# Altium footprint library components.PcbLib: 32 footprints (part 1 of 2)
Each footprint in its own frame and in the unit in brackets; x right, y up, seen from the top. Pads: shape width x height; smd on the part's side, far side on the other; paste and mask are expansions set on the pad; w line width, h text height; cw(c..) or ccw(c..) is an arc to the next point about the centre after c.
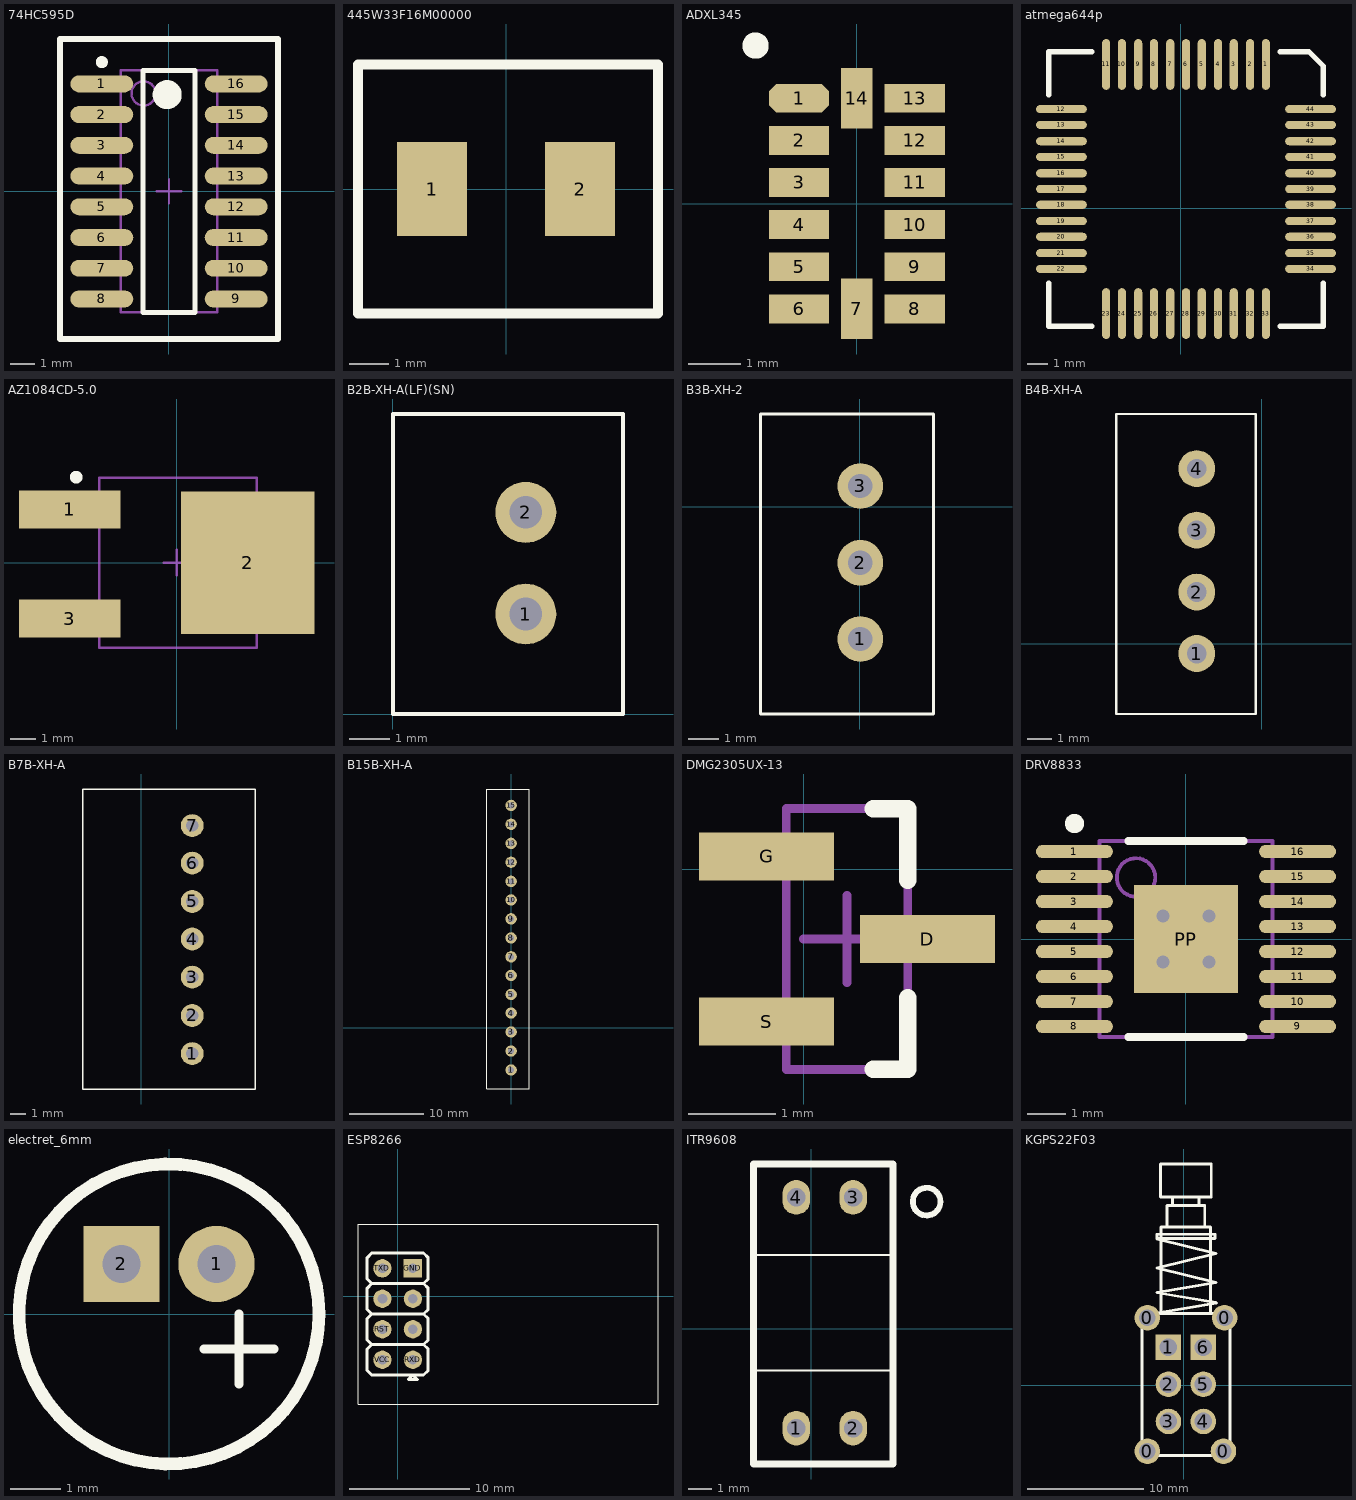
[diagram p0: the footprints below, top view; thin cyan lines are the x and y axes]

## 74HC595D [mm] "SOIC, 16-Leads, Body 10.0x4.0mm (max), Pitch 1.27mm, IPC Low Density"
height 1.7
pads (16):
  oval 2.6x0.7 smd: 1(-2.775,4.445) 2(-2.775,3.175) 3(-2.775,1.905) 4(-2.775,0.635) 5(-2.775,-0.635) 6(-2.775,-1.905) 7(-2.775,-3.175) 8(-2.775,-4.445) 9(2.775,-4.445) 10(2.775,-3.175) 11(2.775,-1.905) 12(2.775,-0.635) 13(2.775,0.635) 14(2.775,1.905) 15(2.775,3.175) 16(2.775,4.445)
Top Overlay:
  circle w0.6: c-0.075,4 r0.3
  circle w0.25: c-2.775,5.345 r0.125
  lines w0.2: -1.075,-5 1.075,-5 1.075,5 -1.075,5 -1.075,-5
  lines w0.254: -4.5,-6.1 4.5,-6.1 4.5,6.3 -4.5,6.3 -4.5,-6.1
Mechanical 13:
  circle w0.1: c-1.05,4.05 r0.5
  lines w0.1: -2,-5 2,-5 2,5 -2,5 -2,-5
Mechanical 15:
  lines w0.1: -0.5,0 0.5,0 ; 0,-0.5 0,0.5
3D body: height 1.7, standoff 0.1, extent -2,-5 2,5

## 445W33F16M00000 [mm]
pads (2):
  rect 1.8x2.4 smd: 1(-1.9,0) 2(1.9,0)
Top Overlay:
  lines w0.254: -3.8,-3.2 -3.8,3.2 3.9,3.2 3.9,-3.2 -3.8,-3.2

## ADXL345 [mm] "BGA, 14-Leads, Body 5.0x3.0mm,  Pitch 0.80mm"
height 1
pads (14):
  oct 1.145x0.55 smd: 1(-1.1,2)
  rect 1.145x0.55 smd: 2(-1.1,1.2) 3(-1.1,0.4) 4(-1.1,-0.4) 5(-1.1,-1.2) 6(-1.1,-2) 8(1.1,-2) 9(1.1,-1.2) 10(1.1,-0.4) 11(1.1,0.4) 12(1.1,1.2) 13(1.1,2)
  rect 0.6x1.145 smd: 7(0,-2) 14(0,2)
Top Overlay:
  circle w0.25: c-1.925,3 r0.125
3D body: height 1, standoff 0.21, extent -1.5,-2.5 1.5,2.5

## atmega644p [mil]
pads (44):
  oval 16x100 smd: 1(167.45,282.95) 2(136.45,282.95) 3(104.45,282.95) 4(73.45,282.95) 5(41.45,282.95) 6(10.45,282.95) 7(-20.55,282.95) 8(-52.55,282.95) 9(-83.55,282.95) 10(-115.55,282.95) 11(-146.55,282.95) 23(-146.55,-207.05) 24(-115.55,-207.05) 25(-83.55,-207.05) 26(-52.55,-207.05) 27(-20.55,-207.05) 28(10.45,-207.05) 29(41.45,-207.05) 30(73.45,-207.05) 31(104.45,-207.05) 32(136.45,-207.05) 33(167.45,-207.05)
  oval 100x16 smd: 12(-234.55,194.95) 13(-234.55,163.95) 14(-234.55,131.95) 15(-234.55,100.95) 16(-234.55,68.95) 17(-234.55,37.95) 18(-234.55,6.95) 19(-234.55,-25.05) 20(-234.55,-56.05) 21(-234.55,-88.05) 22(-234.55,-119.05) 34(255.45,-119.05) 35(255.45,-88.05) 36(255.45,-56.05) 37(255.45,-25.05) 38(255.45,6.95) 39(255.45,37.95) 40(255.45,68.95) 41(255.45,100.95) 42(255.45,131.95) 43(255.45,163.95) 44(255.45,194.95)
Top Overlay:
  lines w10: -259.55,-147.05 -259.55,-232.05 -174.55,-232.05 ; -259.55,222.95 -259.55,307.95 -174.55,307.95 ; 195.45,-232.05 280.45,-232.05 280.45,-147.05 ; 195.45,307.95 252.45,307.95 280.45,279.95 280.45,222.95
3D body: height 39.37, standoff 0, extent -182.94,-161.93 226.5,243.58

## AZ1084CD-5.0 [mm] "D-PAK, 3-Pads, Body 6.2x6.7mm (max), IPC Low Density"
height 2.38
pads (3):
  rect 4x1.5 smd: 1(-4.2,2.1) 3(-4.2,-2.2)
  rect 5.25x5.6 smd: 2(2.8,0)
Top Overlay:
  circle w0.25: c-3.95,3.365 r0.125
Mechanical 13:
  lines w0.1: -3.05,-3.35 3.15,-3.35 3.15,3.35 -3.05,3.35 -3.05,-3.35
Mechanical 15:
  lines w0.1: -0.5,0 0.5,0 ; 0,-0.5 0,0.5
3D body: height 2.38, standoff 0.23, extent -3.05,-3.35 3.15,3.35

## B2B-XH-A(LF)(SN) [mil]
pads (2):
  round 60 hole 32: 1(130.71,98.43) 2(130.71,198.43)
Top Overlay:
  lines w3.94: 0,0 226.38,0 226.38,295.28 0,295.28 0,0

## B3B-XH-2 [mil]
pads (3):
  round 60 hole 32: 1(0.79,-173.23) 2(0.79,-73.23) 3(0.79,27.56)
Top Overlay:
  lines w3.94: -129.92,-271.65 96.46,-271.65 96.46,122.05 -129.92,122.05 -129.92,-271.65

## B4B-XH-A [mil]
pads (4):
  round 60 hole 32: 1(-105.51,-15.75) 2(-105.51,84.25) 3(-105.51,185.04) 4(-105.51,285.04)
Top Overlay:
  lines w3.94: -236.22,-114.17 -9.84,-114.17 -9.84,374.02 -236.22,374.02 -236.22,-114.17

## B7B-XH-A [mil]
pads (7):
  round 60 hole 32: 1(133.86,-1249.61) 2(133.86,-1149.61) 3(133.86,-1048.82) 4(133.86,-948.82) 5(133.86,-850.39) 6(133.86,-749.61) 7(133.86,-651.18)
Top Overlay:
  lines w3.94: -153.54,-1342.52 -153.54,-555.12 299.21,-555.12 299.21,-1342.52 -153.54,-1342.52

## B15B-XH-A [mil]
pads (15):
  round 60 hole 32: 1(0,-222.05) 2(0,-122.05) 3(0,-21.26) 4(0,78.74) 5(0,177.17) 6(0,277.95) 7(0,376.38) 8(0,476.38) 9(0,577.17) 10(0,677.17) 11(0,775.59) 12(0,876.38) 13(0,976.38) 14(0,1077.17) 15(0,1177.17)
Top Overlay:
  lines w3.94: -129.92,-322.83 -129.92,1263.78 96.46,1263.78 96.46,-322.83 -129.92,-322.83

## DMG2305UX-13 [mm]
pads (3):
  rect 1.55x0.55 smd: D(1.425,-0.8) G(-0.425,0.15) S(-0.425,-1.75)
Top Overlay:
  lines w0.2: 0.8,-2.3 1.2,-2.3 1.2,-1.475 ; 0.8,0.7 1.2,0.7 1.2,-0.125
Mechanical 13:
  lines w0.1: -0.2,-2.3 1.2,-2.3 1.2,0.7 -0.2,0.7 -0.2,-2.3
Mechanical 15:
  lines w0.1: 0,-0.8 1,-0.8 ; 0.5,-1.3 0.5,-0.3
3D body: height 1.1, standoff 0.05, extent -0.2,-2.3 1.2,0.7

## DRV8833 [mm]
pads (17):
  oval 2x0.35 smd: 1(-2.9,2.275) 2(-2.9,1.625) 3(-2.9,0.975) 4(-2.9,0.325) 5(-2.9,-0.325) 6(-2.9,-0.975) 7(-2.9,-1.625) 8(-2.9,-2.275) 9(2.9,-2.275) 10(2.9,-1.625) 11(2.9,-0.975) 12(2.9,-0.325) 13(2.9,0.325) 14(2.9,0.975) 15(2.9,1.625) 16(2.9,2.275)
  rect 2.7x2.8 smd: PP(0,0)
via -0.6,0.6 diameter 0.66 hole 0.33
via 0.6,0.6 diameter 0.66 hole 0.33
via -0.6,-0.6 diameter 0.66 hole 0.33
via 0.6,-0.6 diameter 0.66 hole 0.33
Top Overlay:
  circle w0.25: c-2.9,3 r0.125
  lines w0.2: -1.5,-2.55 1.5,-2.55 ; -1.5,2.55 1.5,2.55
Mechanical 13:
  circle w0.1: c-1.3,1.6 r0.5
  lines w0.1: -2.25,-2.55 -2.25,2.55 2.25,2.55 2.25,-2.55 -2.25,-2.55
Mechanical 15:
  lines w0.1: -0.5,0 0.5,0 ; 0,-0.5 0,0.5
3D body: height 1.2, standoff 0.25, extent -2.25,-2.55 2.25,2.55

## electret_6mm [mil]
pads (2):
  round 60 hole 30: 1(37.4,39.37)
  rect 60x60 hole 30: 2(-37.4,39.37)
Top Overlay:
  circle w10: c0,0 r118.11
  lines w7: 27.56,-27.56 82.68,-27.56 ; 55.12,-55.12 55.12,0

## ESP8266 [mil]
pads (8):
  round 60 hole 32: CH_PD(-49.94,-9.12) GPIO0(50.06,-109.12) GPIO2(50.06,-9.12) RST(-49.94,-109.12) RXD(50.06,-209.12) TXD(-49.94,90.88) VCC(-49.94,-209.12)
  rect 60x60 hole 32: GND(50.06,90.88)
Top Overlay:
  lines w3.94: -129.92,-354.33 854.33,-354.33 854.33,236.22 -129.92,236.22 -129.92,-354.33
  lines w10: -84.94,-159.12 85.06,-159.12 ; -84.94,-159.12 -99.94,-144.12 -99.94,-74.12 -84.94,-59.12 ; -84.94,-159.12 -99.94,-174.12 -99.94,-244.12 -84.94,-259.12 85.06,-259.12 100.06,-244.12 100.06,-174.12 85.06,-159.12 ; -84.94,-59.12 85.06,-59.12 ; -84.94,-59.12 -99.94,-44.12 -99.94,25.88 -84.94,40.88 ; -84.94,40.88 85.06,40.88 ; -84.94,40.88 -99.94,55.88 -99.94,125.88 -84.94,140.88 85.06,140.88 100.06,125.88 100.06,55.88 85.06,40.88 ; 85.06,-159.12 100.06,-144.12 100.06,-74.12 85.06,-59.12 ; 85.06,-59.12 100.06,-44.12 100.06,25.88 85.06,40.88 ; 35.06,-274.12 50.06,-259.12 65.06,-274.12 35.06,-274.12
3D body: height 314.96, standoff 0, extent -94.43,-248.09 90.61,129.86

## ITR9608 [mm]
pads (4):
  oval 1.2x1.5 hole 0.8: 1(-0.651,-4.316) 2(1.816,-4.316) 3(1.816,5.684) 4(-0.651,5.684)
Top Overlay:
  circle w0.254: c5,5.5 r0.6
  lines w0.1: -2.502,-1.817 3.54,-1.817 ; -2.502,3.183 3.54,3.183
  lines w0.3: -2.502,7.129 -2.502,-5.871 3.498,-5.871 ; -2.46,7.129 3.54,7.129 3.54,-5.871
3D body: height 10, standoff 0, extent -2.417,-5.817 3.583,-1.817
3D body: height 10, standoff 0, extent -2.417,3.183 3.583,7.183
3D body: height 2, standoff 0, extent -2.417,-1.817 3.583,3.183

## KGPS22F03 [mm]
pads (10):
  round 2.2 hole 1.4: 0(-3.146,-5.666) 0(-3.146,5.814) 0(3.399,-5.666) 0(3.5,5.814)
  rect 2.2x2.2 hole 1.5: 1(-1.334,3.296) 6(1.666,3.296)
  round 2.2 hole 1.5: 2(-1.334,0.096) 3(-1.334,-3.104) 4(1.666,-3.104) 5(1.666,0.096)
Top Overlay:
  lines w0.254: -2.323,7.97 2.757,7.117 ; -2.323,7.981 2.757,8.834 ; -2.323,10.096 2.757,8.844 ; -2.323,10.104 2.757,11.356 -2.323,12.608 -2.323,13 2.655,13 2.655,12.644 -2.323,12.644 ; -2.272,6.243 2.808,7.096 ; -1.957,6.202 -1.957,13.609 2.3,13.609 2.3,6.192 ; -1.459,13.609 -1.459,15.489 1.792,15.489 1.792,13.609 ; -1.002,15.489 -1.002,16.2 1.284,16.2 ; -0.951,16.2 -2.018,16.2 -2.018,19.045 2.351,19.045 2.351,16.251 2.351,16.2 1.284,16.2 ; 1.284,15.54 1.284,16.2 ; -3.593,-6.05 3.957,-6.05 3.957,6.192 -3.593,6.192 -3.593,-6.05
3D body: height 9, standoff 0, extent -3.146,-5.666 3.5,5.814
3D body: height 8, standoff 5, extent -2.034,-5.704 2.266,18.996